# EAGLE library part LTC6244 (library IC)
Dual 50MHz,Low Noise, Rail-to-Rail, CMOS Op Amp http://cds.linear.com/docs/Datasheet/6244fb.pdf
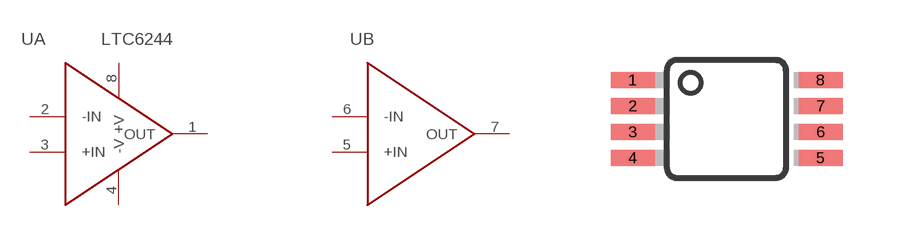
[diagram p20: symbol with the pads of MSOP8; footprint MSOP8]

Designator prefix U; gates A=LTC6244 B=LTC6244_2

## LTC6244-MSOP8  [MSOP8]
1  A:OUT
2  A:-IN
3  A:+IN
4  A:-V
5  B:+IN
6  B:-IN
7  B:OUT
8  A:+V

## Footprint MSOP8 (pad centres in mm)
8M, 8-Lead, 0.118" Wide, Miniature Small Outline Package MSOP 8M-Package doc1097.pdf
smd 1.1 x 0.4: 1 -2.477,0.975; 2 -2.477,0.325; 3 -2.477,-0.325; 4 -2.477,-0.975; 5 2.223,-0.975; 6 2.223,-0.325; 7 2.223,0.325; 8 2.223,0.975